# EAGLE library part HEADER_POS11_? (library con-molex-c-grid-sl)
Molex -C-Grid® / SL Series connector Wire-to-Board 2.54 mm (0.100") pitch header, 11 positions.
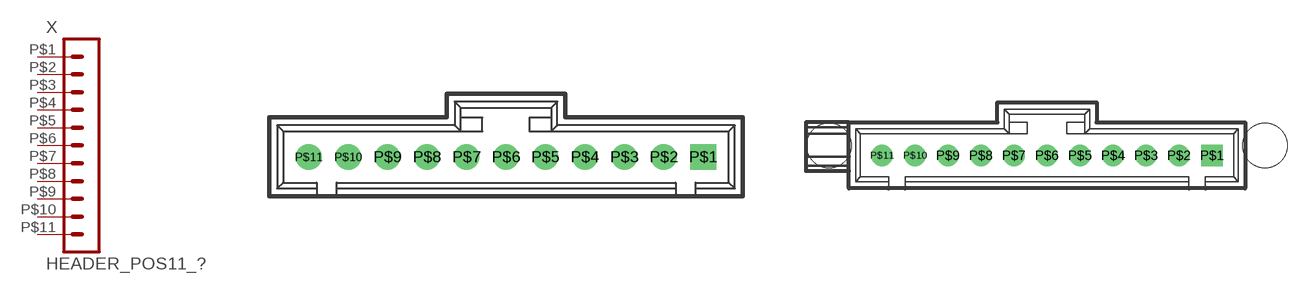
[diagram p5: symbol with the pads of 70543-POS11; footprints 70543-POS11, 70545-POS11]

Designator prefix X

## HEADER_POS11_70543  [70543-POS11]
P$1  1  pas
P$2  2  pas
P$3  3  pas
P$4  4  pas
P$5  5  pas
P$6  6  pas
P$7  7  pas
P$8  8  pas
P$9  9  pas
P$10  10  pas
P$11  11  pas

## HEADER_POS11_70545  [70545-POS11]
Pads as for 70543-POS11

## HEADER_POS11_70553  [70553-POS11]
Pads as for 70543-POS11

## HEADER_POS11_70555  [70555-POS11]
Pads as for 70543-POS11

## HEADER_POS11_70634  [70634-POS11]
Pads as for 70543-POS11

## HEADER_POS11_74099  [74099-POS11]
Pads as for 70543-POS11

## Footprint 70543-POS11 (pad centres in mm)
Molex C-Grid/SL - 70543 - Header, Shrouded, Thru Hole, Latch Holder http://www.molex.com/pdm_docs/sd/705430001_sd.pdf
drill 1.1 square: P$1 12.7,0
drill 1.1 round: P$2 10.16,0; P$3 7.62,0; P$4 5.08,0; P$5 2.54,0; P$6 0,0; P$7 -2.54,0; P$8 -5.08,0; P$9 -7.62,0; P$10 -10.16,0; P$11 -12.7,0

## Footprint 70545-POS11 (pad centres in mm)
Molex C-Grid/SL - 70545 - Header, Shrouded, Thru Hole, Latch Holder, Board Guide http://www.molex.com/pdm_docs/sd/705450003_sd.pdf
drill 1.1 square: P$1 12.7,0
drill 1.1 round: P$2 10.16,0; P$3 7.62,0; P$4 5.08,0; P$5 2.54,0; P$6 0,0; P$7 -2.54,0; P$8 -5.08,0; P$9 -7.62,0; P$10 -10.16,0; P$11 -12.7,0
hole 3.404 at -16.764,0.762
hole 3.404 at 16.764,0.762

## Footprint 70553-POS11 (pad centres in mm)
Molex C-Grid/SL - 70553 - Header, Shrouded, Thru Hole, Right Angle, Latch Holder http://www.molex.com/pdm_docs/sd/705530106_sd.pdf
drill 1.1 square: P$1 -12.7,0
drill 1.1 round: P$2 -10.16,0; P$3 -7.62,0; P$4 -5.08,0; P$5 -2.54,0; P$6 0,0; P$7 2.54,0; P$8 5.08,0; P$9 7.62,0; P$10 10.16,0; P$11 12.7,0

## Footprint 70555-POS11 (pad centres in mm)
Molex C-Grid/SL - 70555 - Header, Shrouded, Thru Hole, Right Angle, Latch Holder, Board Guide. http://www.molex.com/pdm_docs/sd/705550001_sd.pdf
drill 1.1 square: P$1 -12.7,0
drill 1.1 round: P$2 -10.16,0; P$3 -7.62,0; P$4 -5.08,0; P$5 -2.54,0; P$6 0,0; P$7 2.54,0; P$8 5.08,0; P$9 7.62,0; P$10 10.16,0; P$11 12.7,0
hole 3.404 at -14.097,8.636
hole 3.404 at 14.097,8.636

## Footprint 70634-POS11 (pad centres in mm)
Molex C-Grid/SL - 70634 - Header, Shrouded, Surface Mount, Right Angle, Latch Holder http://www.molex.com/pdm_docs/sd/015912045_sd.pdf
smd 1.651 x 5.334: P$1 -12.7,0; P$2 -10.16,0; P$3 -7.62,0; P$4 -5.08,0; P$5 -2.54,0; P$6 0,0; P$7 2.54,0; P$8 5.08,0; P$9 7.62,0; P$10 10.16,0; P$11 12.7,0
hole 3.404 at -14.097,10.693
hole 3.404 at 14.097,10.693

## Footprint 74099-POS11 (pad centres in mm)
Molex C-Grid/SL - 74099 - Header, Shrouded, Surface Mount, Latch Holder http://www.molex.com/pdm_docs/sd/740991004_sd.pdf
smd 1.27 x 3.175: P$1 12.7,2.095; P$2 10.16,-2.095; P$3 7.62,2.095; P$4 5.08,-2.095; P$5 2.54,2.095; P$6 0,-2.095; P$7 -2.54,2.095; P$8 -5.08,-2.095; P$9 -7.62,2.095; P$10 -10.16,-2.095; P$11 -12.7,2.095